# EAGLE library part IRF7811W (library transistor-fet)
N-Channel power MOSFET Rds=9.0mOhm, Qg=18nC, Vgs=12V
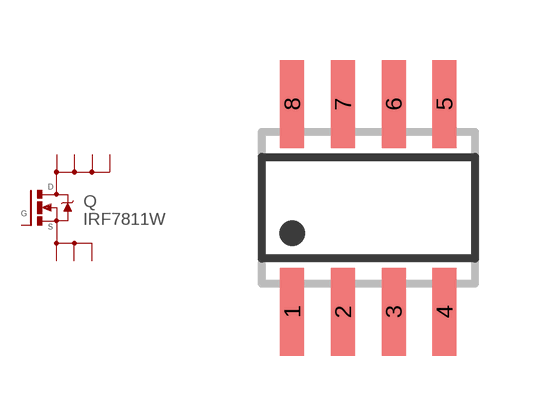
[diagram p1: symbol with the pads of SO08; footprint SO08]

Designator prefix Q

## IRF7811W  [SO08]
1  S1  pas
2  S2  pas
3  S3  pas
4  G  pas
5  D1  pas
6  D2  pas
7  D3  pas
8  D4  pas

## Footprint SO08 (pad centres in mm)
SMALL OUTLINE INTEGRATED CIRCUIT body 3.9 mm/JEDEC MS-012AA
smd 0.6 x 2.2: 1 -1.905,-2.6; 2 -0.635,-2.6; 3 0.635,-2.6; 4 1.905,-2.6; 5 1.905,2.6; 6 0.635,2.6; 7 -0.635,2.6; 8 -1.905,2.6